# Altium footprint library 2049280401.PcbLib: 1 footprints
Each footprint in its own frame and in the unit in brackets; x right, y up, seen from the top. Pads: shape width x height; smd on the part's side, far side on the other; paste and mask are expansions set on the pad; w line width, h text height; cw(c..) or ccw(c..) is an arc to the next point about the centre after c.
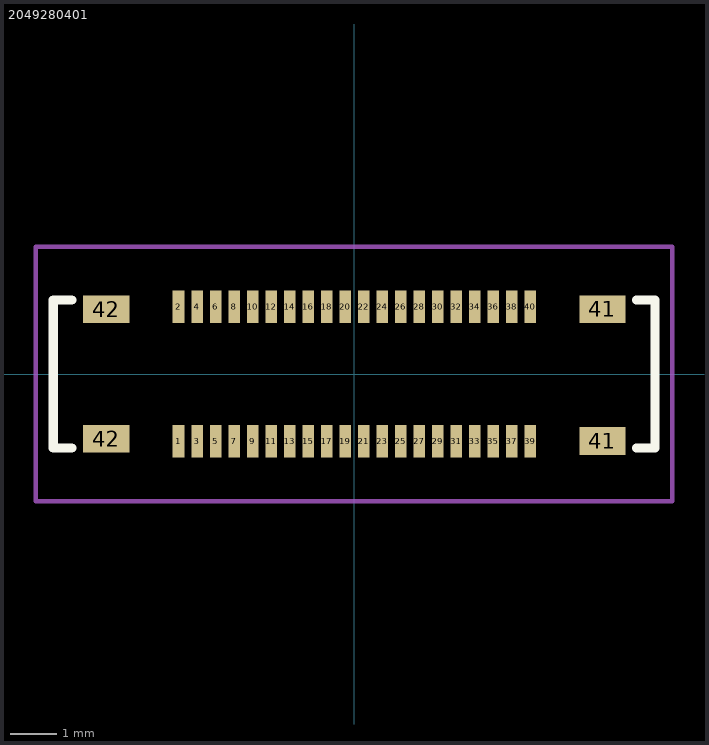
[diagram p0: the footprint, top view; thin cyan lines are the x and y axes]

## 2049280401 [mm] "SlimStack Board-to-Board. Plug, 0.40mm Pitch, FSB3 Floating Series, 3.00mm. Mated Height, 3.20 Mated Width, 40 Circuits"
pads (44):
  rect 0.25x0.7 smd: 1(-3.795,-1.45) 2(-3.795,1.45) 3(-3.395,-1.45) 4(-3.395,1.45) 5(-2.995,-1.45) 6(-2.995,1.45) 7(-2.595,-1.45) 8(-2.595,1.45) 9(-2.195,-1.45) 10(-2.195,1.45) 11(-1.795,-1.45) 12(-1.795,1.45) 13(-1.395,-1.45) 14(-1.395,1.45) 15(-0.995,-1.45) 16(-0.995,1.45) 17(-0.595,-1.45) 18(-0.595,1.45) 19(-0.195,-1.45) 20(-0.195,1.45) 21(0.205,-1.45) 22(0.205,1.45) 23(0.605,-1.45) 24(0.605,1.45) 25(1.005,-1.45) 26(1.005,1.45) 27(1.405,-1.45) 28(1.405,1.45) 29(1.805,-1.45) 30(1.805,1.45) 31(2.205,-1.45) 32(2.205,1.45) 33(2.605,-1.45) 34(2.605,1.45) 35(3.005,-1.45) 36(3.005,1.45) 37(3.405,-1.45) 38(3.405,1.45) 39(3.805,-1.45) 40(3.805,1.45)
  rect 1x0.6 smd: 41(5.363,-1.45) 41(5.363,1.4) 42(-5.357,-1.4) 42(-5.357,1.4)
Top Overlay:
  lines w0.2: -6.1,-1.6 -6.5,-1.6 -6.5,1.6 -6.1,1.6 ; 6.1,-1.6 6.5,-1.6 6.5,1.6 6.1,1.6
Top Courtyard:
  lines w0.1: -6.877,-2.75 -6.877,2.75 6.869,2.75 6.869,-2.75 -6.877,-2.75
3D body "2049280401.stp": height 2.51, standoff 0, extent -6.497,-1.6 6.503,1.6